# Altium schematic symbol library CL31B106KAHSFNE.SchLib: 1 symbol
Pins are listed as number, name and electrical type; pins without a type are passive.

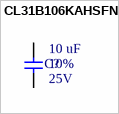
[diagram p0: symbol CL31B106KAHSFNE]

## CL31B106KAHSFNE
designator C?  Rated Voltage: 25V  Tolerance: 10%  Capacitence: 10 uF  (hidden comment: CL31B106KAHSFNE)
CAP CER 10UF 25V X7R 1206; MFR: Samsung Electro-Mechanics; PN: CL31B106KAHSFNE; ComponentLink1Description: Datasheet; ComponentLink1URL: http://www.samsungsem.com/kr/support/product-search/mlcc/CL31B106KAHSFNE.jsp; Temperature Coefficient: X7R; Package: 1206; Footprint: C1206
footprint C1210_LESS_22UF (A generic 1210 footprint)
pins: 1, 2